# Altium footprint library mag_pos.PcbLib: 22 footprints (part 1 of 2)
Each footprint in its own frame and in the unit in brackets; x right, y up, seen from the top. Pads: shape width x height; smd on the part's side, far side on the other; paste and mask are expansions set on the pad; w line width, h text height; cw(c..) or ccw(c..) is an arc to the next point about the centre after c.
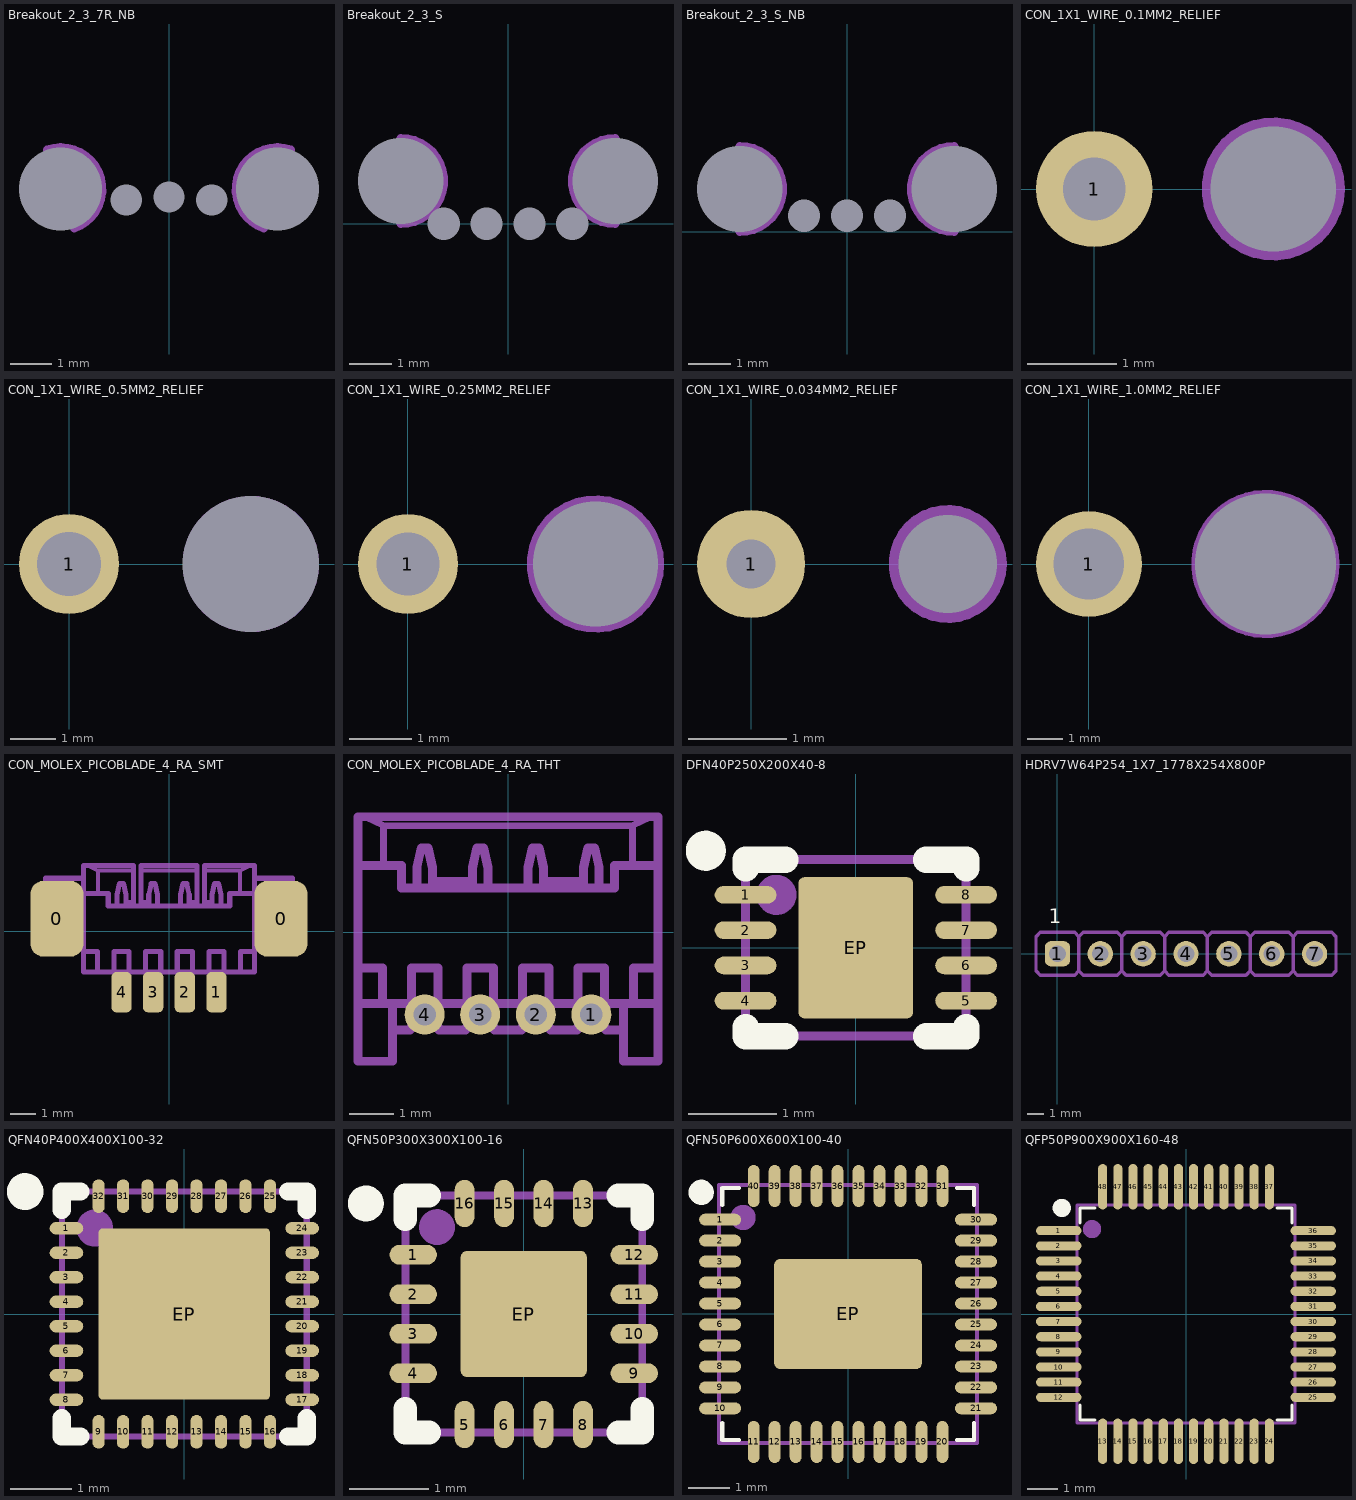
[diagram p0: the footprints below, top view; thin cyan lines are the x and y axes]

## Breakout_2_3_7R_NB [mm] "Breakout, 2mm gap, 3mm connection, straight, No border"
pads (5):
  round 0 hole 2 unplated: 0(-2.605,7.564) 0(2.605,7.564)
  round 0 hole 0.75 unplated: 1(-1.026,7.303) 2(0,7.375) 3(1.026,7.303)
Board (Mech 16):
  lines w0.2: -2.93,8.51 cw(c-2.605,7.564) -2.279,6.619 ; 2.279,6.619 cw(c2.605,7.564) 2.93,8.51

## Breakout_2_3_S [mm] "Breakout, 2mm gap, 3mm connection, straight"
pads (6):
  round 0 hole 2 unplated: 0(-2.5,1) 0(2.5,1)
  round 0 hole 0.75 unplated: 1(-0.5,0) 2(0.5,0) 3(1.5,0) 4(-1.5,0)
Board (Mech 16):
  lines w0.2: -2.5,0 ccw(c-2.5,1) -2.5,2 ; 2.5,0 cw(c2.5,1) 2.5,2

## Breakout_2_3_S_NB [mm] "Breakout, 2mm gap, 3mm connection, straight, No border"
pads (5):
  round 0 hole 2 unplated: 0(-2.5,1) 0(2.5,1)
  round 0 hole 0.75 unplated: 1(-1,0.375) 2(0,0.375) 3(1,0.375)
Board (Mech 16):
  lines w0.2: -2.5,0 ccw(c-2.5,1) -2.5,2 ; 2.5,0 cw(c2.5,1) 2.5,2

## CON_1X1_WIRE_0.1MM2_RELIEF [mm] "Connection for a 0.1mm^2 wire with strain relief"
pads (2):
  round 1.3 hole 0.7: 1(0,0)
  round 0 hole 1.4 unplated: M(2,0)
Top Assembly:
  circle w0.2: c0,0 r0.35
  circle w0.2: c2,0 r0.7

## CON_1X1_WIRE_0.5MM2_RELIEF [mm] "Connection for a 0.5mm^2 wire with strain relief"
pads (2):
  round 2.2 hole 1.4: 1(0,0)
  round 0 hole 3 unplated: M(4,0)
Top Assembly:
  circle w0.2: c0,0 r0.7
  circle w0.2: c4,0 r1.4

## CON_1X1_WIRE_0.25MM2_RELIEF [mm] "Connection for a 0.25mm^2 wire with strain relief"
pads (2):
  round 1.6 hole 1: 1(0,0)
  round 0 hole 2 unplated: M(3,0)
Top Assembly:
  circle w0.2: c3,0 r1
  circle w0.2: c0,0 r0.5

## CON_1X1_WIRE_0.034MM2_RELIEF [mm] "Connection for a 0.034mm^2 wire with strain relief"
pads (2):
  round 1.1 hole 0.5: 1(0,0)
  round 0 hole 1 unplated: M(2,0)
Top Assembly:
  circle w0.2: c0,0 r0.25
  circle w0.2: c2,0 r0.5

## CON_1X1_WIRE_1.0MM2_RELIEF [mm] "Connection for a 1.0mm^2 wire with strain relief"
pads (2):
  round 3 hole 2: 1(0,0)
  round 0 hole 4 unplated: M(5,0)
Top Assembly:
  circle w0.2: c0,0 r1
  circle w0.2: c5,0 r2

## CON_MOLEX_PICOBLADE_4_RA_SMT [mm] "Molex Picoblade, 4 pins, Right Angle, SMT, 532617004 or 532610471"
pads (6):
  rrect50% 2.1x3 smd: 0(-4.425,0.5) 0(4.425,0.5)
  rrect50% 0.8x1.6 smd: 1(1.875,-2.4) 2(0.625,-2.4) 3(-0.625,-2.4) 4(-1.875,-2.4)
Top Assembly:
  lines w0.15: -3.2,2.6 -2.8,2.4 ; -2.8,1.5 -2.8,2.4 ; -1.4,2.4 -2.8,2.4 ; -1.1,2.4 1.1,2.4 ; 1.4,2.4 2.8,2.4 ; 2.8,1.5 2.8,2.4 ; 3.2,2.6 2.8,2.4
  lines w0.2: -4.875,1.6 -5.075,1.4 -5.075,-0.4 -4.875,-0.6 ; -3.375,-0.8 -2.825,-0.8 -2.825,-1.6 ; -3.375,-0.6 -4.875,-0.6 ; -3.375,1.5 -2.4,1.5 -2.4,1 2.4,1 2.4,1.5 3.375,1.5 ; -3.375,2.1 -4.875,2.1 -4.875,-0.6 ; -2.175,-1.6 -2.175,-0.8 -1.575,-0.8 -1.575,-1.6 ; -2.075,-1.6 -2.075,-2.6 -1.675,-2.6 -1.675,-1.6 ; -2.05,1 -2.05,1.45 -1.95,1.9 -1.8,1.9 -1.7,1.45 -1.7,1 ; -1.7,1.15 -1.4,1.15 -1.4,2.6 -3.375,2.6 -3.375,-1.6 3.375,-1.6 3.375,2.6 1.4,2.6 1.4,1.15 1.7,1.15 ; -0.925,-1.6 -0.925,-0.8 -0.325,-0.8 -0.325,-1.6 ; -0.825,-1.6 -0.825,-2.6 -0.425,-2.6 -0.425,-1.6 ; -0.8,1 -0.8,1.45 -0.7,1.9 -0.55,1.9 -0.45,1.45 -0.45,1 ; -0.8,1.15 -1.1,1.15 -1.1,2.6 1.1,2.6 1.1,1.15 0.8,1.15 ; 0.325,-1.6 0.325,-0.8 0.925,-0.8 0.925,-1.6 ; 0.425,-1.6 0.425,-2.6 0.825,-2.6 0.825,-1.6 ; 1.575,-1.6 1.575,-0.8 2.175,-0.8 2.175,-1.6 ; 1.675,-1.6 1.675,-2.6 2.075,-2.6 2.075,-1.6 ; 1.7,1 1.7,1.45 1.8,1.9 1.95,1.9 2.05,1.45 2.05,1 ; 2.825,-1.6 2.825,-0.8 3.375,-0.8 ; 3.375,-0.6 4.875,-0.6 ; 3.375,2.1 4.875,2.1 4.875,-0.6 ; 4.875,1.6 5.075,1.4 5.075,-0.4 4.875,-0.6 ; 0.45,1.45 0.45,1 0.45,1.45 ; 0.45,1.45 0.55,1.9 ; 0.45,1.45 0.55,1.9 ; 0.55,1.9 0.7,1.9 ; 0.55,1.9 0.7,1.9 ; 0.7,1.9 0.8,1.45 ; 0.7,1.9 0.8,1.45 ; 0.8,1.45 0.8,1 0.8,1.45
3D body "532617004.stp": height 3.4, standoff 0, extent -5.075,-2.6 5.075,2.6

## CON_MOLEX_PICOBLADE_4_RA_THT [mm] "Molex Picoblade, 4 pins, Right Angle, THT, 530480450 or 530480410"
pads (4):
  round 0.9 hole 0.5: 1(1.875,-1.85) 2(0.625,-1.85) 3(-0.625,-1.85) 4(-1.875,-1.85)
Top Assembly:
  lines w0.15: -3.2,2.6 -2.8,2.4 ; -2.8,1.5 -2.8,2.4 ; 2.8,1.5 2.8,2.4 ; 3.2,2.6 2.8,2.4 ; -2.8,2.4 2.8,2.4
  lines w0.2: -3.375,-0.8 -2.825,-0.8 -2.825,-1.6 ; -3.375,1.5 -2.4,1.5 -2.4,1 2.4,1 2.4,1.5 3.375,1.5 ; -2.6,-2.2 -2.2,-2.2 -2.075,-1.8 ; -2.6,-1.6 -2.6,-2.9 -3.375,-2.9 -3.375,-1.6 ; -2.175,-1.6 -2.175,-0.8 -1.575,-0.8 -1.575,-1.6 ; -2.075,-1.6 -2.075,-2 -1.675,-2 -1.675,-1.6 ; -2.05,1 -2.05,1.45 -1.95,1.9 -1.8,1.9 -1.7,1.45 -1.7,1 ; -1.7,1.15 -0.8,1.15 ; -1.675,-1.8 -1.55,-2.2 -0.95,-2.2 -0.825,-1.8 ; -0.925,-1.6 -0.925,-0.8 -0.325,-0.8 -0.325,-1.6 ; -0.825,-1.6 -0.825,-2 -0.425,-2 -0.425,-1.6 ; -0.8,1 -0.8,1.45 -0.7,1.9 -0.55,1.9 -0.45,1.45 -0.45,1 ; -0.425,-1.8 -0.3,-2.2 0.3,-2.2 0.425,-1.8 ; 0.325,-1.6 0.325,-0.8 0.925,-0.8 0.925,-1.6 ; 0.425,-1.6 0.425,-2 0.825,-2 0.825,-1.6 ; 0.8,1.15 1.7,1.15 ; 0.825,-1.8 0.95,-2.2 1.55,-2.2 1.675,-1.8 ; 1.575,-1.6 1.575,-0.8 2.175,-0.8 2.175,-1.6 ; 1.675,-1.6 1.675,-2 2.075,-2 2.075,-1.6 ; 1.7,1 1.7,1.45 1.8,1.9 1.95,1.9 2.05,1.45 2.05,1 ; 2.075,-1.8 2.2,-2.2 2.6,-2.2 ; 2.6,-1.6 2.6,-2.9 3.375,-2.9 3.375,-1.6 ; 2.825,-1.6 2.825,-0.8 3.375,-0.8 ; -3.375,-1.6 3.375,-1.6 ; -3.375,-1.6 -3.375,2.6 3.375,2.6 3.375,-1.6 ; 0.45,1.45 0.45,1 0.45,1.45 ; 0.45,1.45 0.55,1.9 ; 0.45,1.45 0.55,1.9 ; 0.55,1.9 0.7,1.9 ; 0.55,1.9 0.7,1.9 ; 0.7,1.9 0.8,1.45 ; 0.7,1.9 0.8,1.45 ; 0.8,1.45 0.8,1 0.8,1.45
3D body "530480450.stp": height 3.5, standoff -2.3, extent -3.375,-2.9 3.375,2.6

## DFN40P250X200X40-8 [mm] "Dual flat no-lead package - 16Pin - 0.4mm spacing - 0.4mm height"
height 0.4
pads (9):
  oval 0.7x0.2 smd: 1(-1.25,0.6) 2(-1.25,0.2) 3(-1.25,-0.2) 4(-1.25,-0.6) 5(1.25,-0.6) 6(1.25,-0.2) 7(1.25,0.2) 8(1.25,0.6)
  rrect10% 1.3x1.6 smd paste-2: EP(0,0)
Top Overlay:
  circle w0.254: c-1.7,1.1 r0.1
  lines w0.3: -1.25,-0.9 -1.25,-1 -0.8,-1 ; -1.25,0.9 -1.25,1 -0.8,1 ; 0.8,-1 1.25,-1 1.25,-0.9 ; 0.8,1 1.25,1 1.25,0.9
Top Paste:
  region: -0.1,0.2 -0.1,0.6 -0.5,0.6 -0.5,0.2
  region: 0.1,-0.2 0.1,-0.6 0.5,-0.6 0.5,-0.2
  region: -0.1,-0.2 -0.5,-0.2 -0.5,-0.6 -0.1,-0.6
  region: 0.1,0.2 0.5,0.2 0.5,0.6 0.1,0.6
Top Assembly:
  circle w0.254: c-0.9,0.6 r0.1
  lines w0.1: -1.25,-1 -1.25,1 1.25,1 1.25,-1 -1.25,-1
3D body: height 0.2, standoff 0, extent 0.851,-0.3 1.251,-0.1
3D body: height 0.2, standoff 0, extent 0.851,-0.7 1.251,-0.5
3D body: height 0.2, standoff 0, extent 0.851,0.5 1.251,0.7
3D body: height 0.2, standoff 0, extent 0.851,0.1 1.251,0.3
3D body: height 0.2, standoff 0, extent -0.65,-0.8 0.65,0.8
3D body: height 0.4, standoff 0.05, extent -1.25,-1 1.25,1
3D body: height 0.2, standoff 0, extent -1.251,0.5 -0.851,0.7
3D body: height 0.2, standoff 0, extent -1.251,0.1 -0.851,0.3
3D body: height 0.2, standoff 0, extent -1.251,-0.3 -0.851,-0.1
3D body: height 0.2, standoff 0, extent -1.251,-0.7 -0.851,-0.5
3D body: height 0.41, standoff 0.4, extent -1.197,0.301 -0.6,0.9

## HDRV7W64P254_1X7_1778X254X800P [mm] "Header, vertical, 2.54mm pitch, 0.635mm lead width, 7 pins, 1 row, 7 pins per row, 17.78mm L x 2.54mmW x 8.mmmm H body"
pads (7):
  rrect50% 1.5x1.5 hole 1: 1(0,0)
  round 1.5 hole 1: 2(2.54,0) 3(5.08,0) 4(7.62,0) 5(10.16,0) 6(12.7,0) 7(15.24,0)
Top Overlay:
  text "1" at -0.508,1.524 h1.5
Top Assembly:
  lines w0.2: 1.27,-1.016 1.016,-1.27 -1.016,-1.27 -1.27,-1.016 -1.27,1.016 -1.016,1.27 1.016,1.27 1.27,1.016 ; 1.27,-1.016 1.27,1.016 ; 1.27,-1.016 1.524,-1.27 3.556,-1.27 3.81,-1.016 ; 1.27,1.016 1.524,1.27 3.556,1.27 3.81,1.016 ; 3.81,-1.016 3.81,1.016 ; 3.81,-1.016 4.064,-1.27 6.096,-1.27 6.35,-1.016 ; 3.81,1.016 4.064,1.27 6.096,1.27 6.35,1.016 ; 6.35,-1.016 6.35,1.016 ; 6.35,-1.016 6.604,-1.27 8.636,-1.27 8.89,-1.016 ; 6.35,1.016 6.604,1.27 8.636,1.27 8.89,1.016 ; 8.89,-1.016 8.89,1.016 ; 8.89,-1.016 9.144,-1.27 11.176,-1.27 11.43,-1.016 ; 8.89,1.016 9.144,1.27 11.176,1.27 11.43,1.016 ; 11.43,-1.016 11.43,1.016 ; 11.43,-1.016 11.684,-1.27 13.716,-1.27 13.97,-1.016 ; 11.43,1.016 11.684,1.27 13.716,1.27 13.97,1.016 ; 13.97,-1.016 13.97,1.016 ; 13.97,-1.016 14.224,-1.27 16.256,-1.27 16.51,-1.016 16.51,1.016 16.256,1.27 14.224,1.27 13.97,1.016
  text "1" at -0.508,1.524 h1.5
3D body: height 1.5, standoff 0, extent -1.27,-1.27 1.27,1.27
3D body: height 8, standoff -2, extent -0.318,-0.318 0.318,0.318
3D body: height 1.5, standoff 0, extent 1.27,-1.27 3.81,1.27
3D body: height 8, standoff -2, extent 2.222,-0.318 2.857,0.318
3D body: height 1.5, standoff 0, extent 3.81,-1.27 6.35,1.27
3D body: height 8, standoff -2, extent 4.763,-0.318 5.397,0.318
3D body: height 1.5, standoff 0, extent 6.35,-1.27 8.89,1.27
3D body: height 8, standoff -2, extent 7.302,-0.318 7.938,0.318
3D body: height 1.5, standoff 0, extent 8.89,-1.27 11.43,1.27
3D body: height 8, standoff -2, extent 9.842,-0.318 10.477,0.318
3D body: height 1.5, standoff 0, extent 11.43,-1.27 13.97,1.27
3D body: height 8, standoff -2, extent 12.383,-0.318 13.018,0.318
3D body: height 1.5, standoff 0, extent 13.97,-1.27 16.51,1.27
3D body: height 8, standoff -2, extent 14.922,-0.318 15.557,0.318

## QFN40P400X400X100-32 [mm] "Quad flat no-lead package - 32Pin - 0.4mm spacing - 1mm height (TI RSM0032B)"
height 1
pads (33):
  oval 0.55x0.2 smd: 1(-1.925,1.4) 2(-1.925,1) 3(-1.925,0.6) 4(-1.925,0.2) 5(-1.925,-0.2) 6(-1.925,-0.6) 7(-1.925,-1) 8(-1.925,-1.4) 17(1.925,-1.4) 18(1.925,-1) 19(1.925,-0.6) 20(1.925,-0.2) 21(1.925,0.2) 22(1.925,0.6) 23(1.925,1) 24(1.925,1.4)
  oval 0.2x0.55 smd: 9(-1.4,-1.925) 10(-1,-1.925) 11(-0.6,-1.925) 12(-0.2,-1.925) 13(0.2,-1.925) 14(0.6,-1.925) 15(1,-1.925) 16(1.4,-1.925) 25(1.4,1.925) 26(1,1.925) 27(0.6,1.925) 28(0.2,1.925) 29(-0.2,1.925) 30(-0.6,1.925) 31(-1,1.925) 32(-1.4,1.925)
  rrect5% 2.8x2.8 smd paste-2: EP(0,0)
Top Overlay:
  circle w0.4: c-2.6,2 r0.1
  lines w0.3: -2,-1.7 -2,-2 -1.7,-2 ; -2,1.7 -2,2 -1.7,2 ; 1.7,-2 2,-2 2,-1.7 ; 1.7,2 2,2 2,1.7
Top Paste:
  region: 0.1,0.1 1.33,0.1 1.33,1.33 0.1,1.33
  region: 0.1,-0.1 0.1,-1.33 1.33,-1.33 1.33,-0.1
  region: -0.1,-0.1 -1.33,-0.1 -1.33,-1.33 -0.1,-1.33
  region: -0.1,0.1 -0.1,1.33 -1.33,1.33 -1.33,0.1
Top Assembly:
  circle w0.4: c-1.463,1.404 r0.1
  lines w0.1: -2,-2 -2,2 2,2 2,-2 -2,-2
3D body "RSM0032B.stp": height 1, standoff 0, extent -2,-2 2,2

## QFN50P300X300X100-16 [mm] "Quad flat no-lead package - 16Pin - 0.5mm spacing - 1mm height"
height 1
pads (17):
  oval 0.6x0.25 smd: 1(-1.4,0.75) 2(-1.4,0.25) 3(-1.4,-0.25) 4(-1.4,-0.75) 9(1.4,-0.75) 10(1.4,-0.25) 11(1.4,0.25) 12(1.4,0.75)
  oval 0.25x0.6 smd: 5(-0.75,-1.4) 6(-0.25,-1.4) 7(0.25,-1.4) 8(0.75,-1.4) 13(0.75,1.4) 14(0.25,1.4) 15(-0.25,1.4) 16(-0.75,1.4)
  rrect10% 1.6x1.6 smd paste-2: EP(0,0)
Top Overlay:
  circle w0.254: c-2,1.4 r0.1
  lines w0.3: -1.5,-1.2 -1.5,-1.5 -1.2,-1.5 ; -1.5,1.2 -1.5,1.5 -1.2,1.5 ; 1.2,-1.5 1.5,-1.5 1.5,-1.2 ; 1.2,1.5 1.5,1.5 1.5,1.2
Top Paste:
  region: -0.2,0.2 -0.2,0.6 -0.6,0.6 -0.6,0.2
  region: 0.2,-0.2 0.2,-0.6 0.6,-0.6 0.6,-0.2
  region: -0.2,-0.2 -0.6,-0.2 -0.6,-0.6 -0.2,-0.6
  region: 0.2,0.2 0.6,0.2 0.6,0.6 0.2,0.6
Top Assembly:
  circle w0.254: c-1.1,1.1 r0.1
  lines w0.1: -1.5,-1.5 -1.5,1.5 1.5,1.5 1.5,-1.5 -1.5,-1.5
3D body: height 1, standoff 0.05, extent -1.55,-1.55 1.55,1.55
3D body: height 0.2, standoff 0, extent 1.151,0.15 1.551,0.35
3D body: height 0.2, standoff 0, extent 1.151,0.65 1.551,0.85
3D body: height 0.2, standoff 0, extent 0.65,1.151 0.85,1.551
3D body: height 0.2, standoff 0, extent 0.15,1.151 0.35,1.551
3D body: height 0.2, standoff 0, extent 0.15,-1.551 0.35,-1.151
3D body: height 0.2, standoff 0, extent 0.65,-1.551 0.85,-1.151
3D body: height 0.2, standoff 0, extent 1.151,-0.85 1.551,-0.65
3D body: height 0.2, standoff 0, extent 1.151,-0.35 1.551,-0.15
3D body: height 0.2, standoff 0, extent -0.35,1.151 -0.15,1.551
3D body: height 0.2, standoff 0, extent -0.85,1.151 -0.65,1.551
3D body: height 0.2, standoff 0, extent -1.551,0.65 -1.151,0.85
3D body: height 0.2, standoff 0, extent -1.551,0.15 -1.151,0.35
3D body: height 0.2, standoff 0, extent -0.85,-1.551 -0.65,-1.151
3D body: height 0.2, standoff 0, extent -0.35,-1.551 -0.15,-1.151
3D body: height 0.2, standoff 0, extent -1.551,-0.35 -1.151,-0.15
3D body: height 0.2, standoff 0, extent -1.551,-0.85 -1.151,-0.65
3D body: height 1.01, standoff 1, extent -1.398,0.801 -0.8,1.399
3D body: height 0.5, standoff 0, extent -0.8,-0.8 0.8,0.8

## QFN50P600X600X100-40 [mm] "Quad flad no-lead, 40 pin, 0.5mm spacing, 1.0mm height (TI RHA48A)"
height 1
pads (41):
  oval 1x0.28 smd: 1(-3.05,2.25) 2(-3.05,1.75) 3(-3.05,1.25) 4(-3.05,0.75) 5(-3.05,0.25) 6(-3.05,-0.25) 7(-3.05,-0.75) 8(-3.05,-1.25) 9(-3.05,-1.75) 10(-3.05,-2.25) 21(3.05,-2.25) 22(3.05,-1.75) 23(3.05,-1.25) 24(3.05,-0.75) 25(3.05,-0.25) 26(3.05,0.25) 27(3.05,0.75) 28(3.05,1.25) 29(3.05,1.75) 30(3.05,2.25)
  oval 0.28x1 smd: 11(-2.25,-3.05) 12(-1.75,-3.05) 13(-1.25,-3.05) 14(-0.75,-3.05) 15(-0.25,-3.05) 16(0.25,-3.05) 17(0.75,-3.05) 18(1.25,-3.05) 19(1.75,-3.05) 20(2.25,-3.05) 31(2.25,3.05) 32(1.75,3.05) 33(1.25,3.05) 34(0.75,3.05) 35(0.25,3.05) 36(-0.25,3.05) 37(-0.75,3.05) 38(-1.25,3.05) 39(-1.75,3.05) 40(-2.25,3.05)
  rrect10% 3.52x2.62 smd paste-3: EP(0,0)
Top Overlay:
  circle w0.4: c-3.5,2.9 r0.1
  lines w0.1: -3,-2.6 -3,-3 -2.6,-3 ; -3,2.6 -3,3 -2.6,3 ; 2.6,-3 3,-3 3,-2.6 ; 2.6,3 3,3 3,2.6
Top Paste:
  region: -0.15,-0.15 -0.15,-1.15 -1.65,-1.15 -1.65,-0.15
  region: -0.15,0.15 -0.15,1.15 -1.65,1.15 -1.65,0.15
  region: 0.15,0.15 0.15,1.15 1.65,1.15 1.65,0.15
  region: 0.15,-0.15 0.15,-1.15 1.65,-1.15 1.65,-0.15
Top Assembly:
  circle w0.4: c-2.5,2.3 r0.1
  lines w0.1: -3.075,-3.075 3.075,-3.075 3.075,3.075 -3.075,3.075 -3.075,-3.075
3D body "RHA0040E.stp": height 1, standoff 0, extent -3,-3 3,3

## QFP50P900X900X160-48 [mm] "Quad flat pin package, 48 Pin, 0.5mm Spacing, 1.6mm Height (TI PT0048A)"
height 1.6
pads (48):
  oval 1.5x0.3 smd: 1(-4.2,2.75) 2(-4.2,2.25) 3(-4.2,1.75) 4(-4.2,1.25) 5(-4.2,0.75) 6(-4.2,0.25) 7(-4.2,-0.25) 8(-4.2,-0.75) 9(-4.2,-1.25) 10(-4.2,-1.75) 11(-4.2,-2.25) 12(-4.2,-2.75) 25(4.2,-2.75) 26(4.2,-2.25) 27(4.2,-1.75) 28(4.2,-1.25) 29(4.2,-0.75) 30(4.2,-0.25) 31(4.2,0.25) 32(4.2,0.75) 33(4.2,1.25) 34(4.2,1.75) 35(4.2,2.25) 36(4.2,2.75)
  oval 0.3x1.5 smd: 13(-2.75,-4.2) 14(-2.25,-4.2) 15(-1.75,-4.2) 16(-1.25,-4.2) 17(-0.75,-4.2) 18(-0.25,-4.2) 19(0.25,-4.2) 20(0.75,-4.2) 21(1.25,-4.2) 22(1.75,-4.2) 23(2.25,-4.2) 24(2.75,-4.2) 37(2.75,4.2) 38(2.25,4.2) 39(1.75,4.2) 40(1.25,4.2) 41(0.75,4.2) 42(0.25,4.2) 43(-0.25,4.2) 44(-0.75,4.2) 45(-1.25,4.2) 46(-1.75,4.2) 47(-2.25,4.2) 48(-2.75,4.2)
Top Overlay:
  circle w0.4: c-4.1,3.5 r0.1
  lines w0.1: -3.5,-3 -3.5,-3.5 -3,-3.5 ; -3.5,3 -3.5,3.5 -3,3.5 ; 3,-3.5 3.5,-3.5 3.5,-3 ; 3,3.5 3.5,3.5 3.5,3
Top Assembly:
  circle w0.4: c-3.1,2.8 r0.1
  lines w0.1: -3.6,-3.6 -3.6,3.6 3.6,3.6 3.6,-3.6 -3.6,-3.6
3D body "PT0048A.stp": height 1.5, standoff 0, extent -4.508,-4.508 4.508,4.508